# Altium schematic symbol library GechoBreakout.SchLib: 1 symbol
Pins are listed as number, name and electrical type; pins without a type are passive.

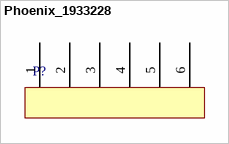
[diagram p0: symbol Phoenix_1933228]

## Phoenix_1933228
designator P?  (value not drawn)
footprint Phoenix_1933228 (Phoenix Contact 5mm Pin Header)
pins: 1, 2, 3, 4, 5, 6